# EAGLE library part 10-PIN_SWD (library PowerManagement)
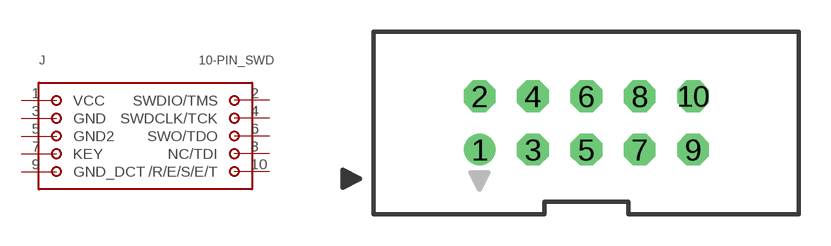
[diagram p2: symbol with the pads of CORTEXM3_SWD10_MOLEX; footprint CORTEXM3_SWD10_MOLEX]

Designator prefix J

## 10-PIN_SWD  [CORTEXM3_SWD10_MOLEX]
1  VCC  pwr
2  SWDIO/TMS
3  GND  pwr
4  SWDCLK/TCK
5  GND2  pwr
6  SWO/TDO
7  KEY
8  NC/TDI
9  GND_DCT  pwr
10  /R/E/S/E/T

## Footprint CORTEXM3_SWD10_MOLEX (pad centres in mm)
10 Pin SWD Connector (Cortex M3) Note: Small tRestrict polygon's were added to the ground pads to improve solderability when this part is used in combination with a ground pour. By default, Eagle will product four large bridges to the ground pour significantly increasing the heat distribution on the pads and preventing lead-free solder from reflowing in certain situations. For more details, see: http://www.microbuilder.eu/Blog/09-12-14/Reducing_Thermals_for_Large_Pads_in_Eagle.aspx
drill 1: 1 -5.08,-1.27
drill 1 octagon: 2 -5.08,1.27; 3 -2.54,-1.27; 4 -2.54,1.27; 5 0,-1.27; 6 0,1.27; 7 2.54,-1.27; 8 2.54,1.27; 9 5.08,-1.27; 10 5.08,1.27